# Altium footprint library PcbLib2.PcbLib: 1 footprints
Each footprint in its own frame and in the unit in brackets; x right, y up, seen from the top. Pads: shape width x height; smd on the part's side, far side on the other; paste and mask are expansions set on the pad; w line width, h text height; cw(c..) or ccw(c..) is an arc to the next point about the centre after c.
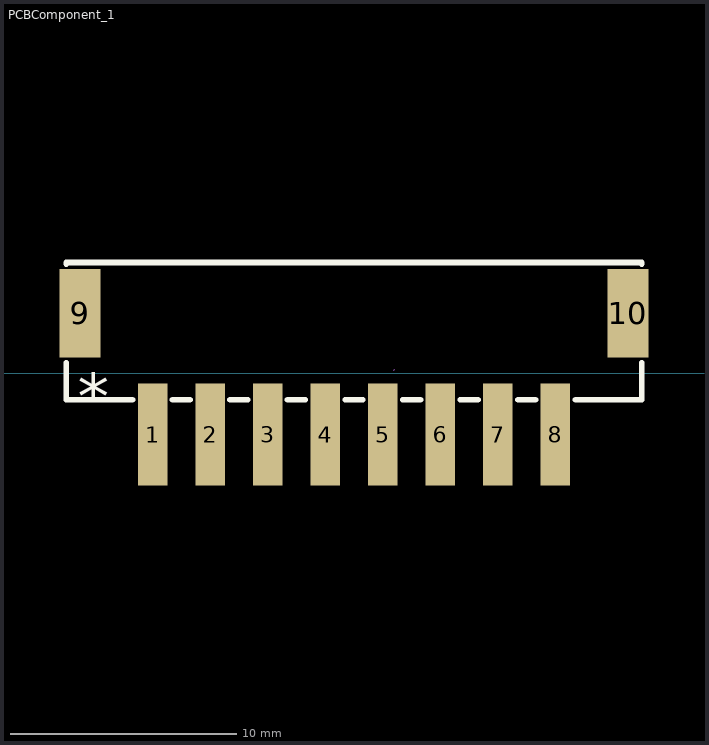
[diagram p0: the footprint, top view; thin cyan lines are the x and y axes]

## PCBComponent_1 [mm]
pads (10):
  rect 1.3x4.5 smd: 1(9.18,-2.703) 2(11.72,-2.703) 3(14.26,-2.703) 4(16.8,-2.703) 5(19.34,-2.703) 6(21.88,-2.703) 7(24.42,-2.703) 8(26.96,-2.703)
  rect 1.8x3.9 smd: 9(5.98,2.647) 10(30.16,2.647)
Top Overlay:
  lines w0.254: 5.37,0.466 5.37,-1.163 8.299,-1.163 ; 5.37,4.828 5.37,4.897 30.77,4.897 30.77,4.828 ; 10.061,-1.163 10.839,-1.163 ; 12.601,-1.163 13.379,-1.163 ; 15.141,-1.163 15.919,-1.163 ; 17.681,-1.163 18.459,-1.163 ; 20.221,-1.163 20.999,-1.163 ; 22.761,-1.163 23.539,-1.163 ; 25.301,-1.163 26.079,-1.163 ; 27.841,-1.163 30.77,-1.163 30.77,0.466
  text "*" at 7.275,0.853 h2.03
Mechanical 15:
  lines w0.003: 19.823,0.137 19.873,0.188